# EAGLE library part MOLEX_503480-1800 (library Upverter Library)
MOLX-503480-1800
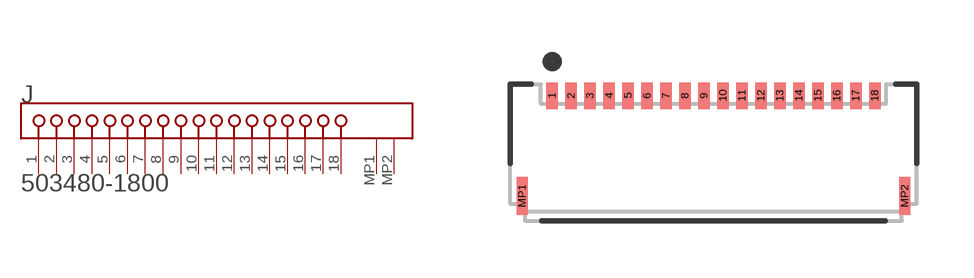
[diagram p0: symbol with the pads of MOLEX_503480-1800_0; footprint MOLEX_503480-1800_0]

Designator prefix J

## MOLEX_503480-1800MOLEX_503480-1800_0_0 (Circuits_Loaded: 18; Component_Link_1_Description: Manufacturer URL; Component_Link_1_URL: http://www.molex.com/molex/index.jsp; Component_Link_3_Description: Package Specification; Component_Link_3_URL: http://www.molex.com/pdm_docs/sd/5034801800_sd.pdf; Contact_Position: Dual; Current_Max_per_Contact: 0.5A; Durability_mating_cycles_max: 10; Entry_Angle: 90degrees Angle; MF: Molex; MPN: 503480-1800; Mated_Height: 1.00mm; Material___Metal: Phosphor Bronze; Material___Plating_Mating: Gold; Material___Plating_Termination: Gold, Tin; Mounting_Technology: Surface Mount; Number_of_Rows: 1; Orientation: Right Angle; PCB_Locator: No; PCB_Retention: Yes; Package_Description: 18-Lead FPC Connector, Pitch 0.5 mm; Package_Version: Rev. F, 09/2012; Packing: Tape and Reel; Pitch___Mating_Interface: 0.50mm; Polarized_to_PCB: Yes; Stackable: No; Voltage_Max: 50V AC (RMS)/DC; ciiva_ids: 1153630; datasheet: http://www.molex.com/webdocs/datasheets/pdf/en-us/5034801800_FFC_FPC_CONNECTORS.pdf; footprint_variant_name_0: Manufacturer Recommended; import_ts: 1521846740; imported: yes; imported_from: vault; package: 503480-1800; prefix: J; release_date: 1411386732; rohs: Yes; vault_guid: 8B13497B-57A7-4086-B492-17829E7F575A; vault_revision: 132067AF-0E6A-4227-B40F-3C9971F26DD6)  [MOLEX_503480-1800_0]
1  1  pas
2  2  pas
3  3  pas
4  4  pas
5  5  pas
6  6  pas
7  7  pas
8  8  pas
9  9  pas
10  10  pas
11  11  pas
12  12  pas
13  13  pas
14  14  pas
15  15  pas
16  16  pas
17  17  pas
18  18  pas
MP1  MP1  pas
MP2  MP2  pas

## Footprint MOLEX_503480-1800_0 (pad centres in mm)
MOLX-503480-1800
smd 0.3 x 0.7: 1 -4.25,1.325; 2 -3.75,1.325; 3 -3.25,1.325; 4 -2.75,1.325; 5 -2.25,1.325; 6 -1.75,1.325; 7 -1.25,1.325; 8 -0.75,1.325; 9 -0.25,1.325; 10 0.25,1.325; 11 0.75,1.325; 12 1.25,1.325; 13 1.75,1.325; 14 2.25,1.325; 15 2.75,1.325; 16 3.25,1.325; 17 3.75,1.325; 18 4.25,1.325
smd 0.3 x 1: MP1 -5.04,-1.325; MP2 5.04,-1.325